# Altium schematic symbol library 虚拟离子电流.SchLib: 4 symbols
Pins are listed as number, name and electrical type; pins without a type are passive.

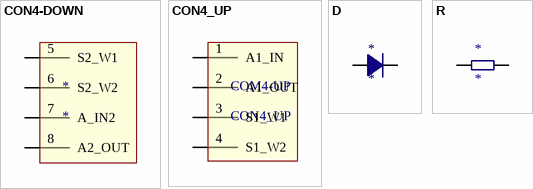
[diagram p0: symbols CON4-DOWN to R]

## CON4-DOWN
designator *
footprint CON4_DOWN
pins: 5 S2_W1, 6 S2_W2, 7 A_IN2, 8 A2_OUT

## CON4_UP
designator COM4-UP
footprint CON4_UP
pins: 1 A1_IN, 2 A1_OUT, 3 S1_W1, 4 S1_W2

## D
designator *
footprint IN4007
pins: 1, 2

## R
designator *
footprint R1206
pins: 1, 2